# EAGLE library part CD4016BE (library custom)
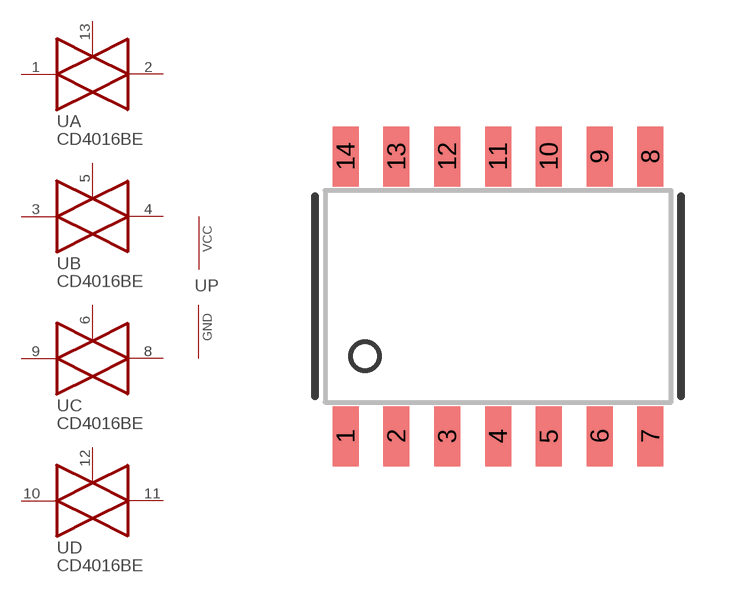
[diagram p27: symbol with the pads of 14-SOICW; footprint 14-SOICW]

Designator prefix -; gates A=T_GATE B=T_GATE C=T_GATE D=T_GATE P=PWRN

## CD4016BE  [14-SOICW]
1  A:1  in
2  A:2  out
3  B:1  in
4  B:2  out
5  B:3  in
6  C:3  in
7  P:GND  pwr
8  C:2  out
9  C:1  in
10  D:1  in
11  D:2  out
12  D:3  in
13  A:3  in
14  P:VCC  pwr

## Footprint 14-SOICW (pad centres in mm)
smd 0.65 x 1.5: 1 -4.445,-3.5; 2 -3.175,-3.5; 3 -1.905,-3.5; 4 -0.635,-3.5; 5 0.635,-3.5; 6 1.905,-3.5; 7 3.175,-3.5; 8 3.175,3.5; 9 1.905,3.5; 10 0.635,3.5; 11 -0.635,3.5; 12 -1.905,3.5; 13 -3.175,3.5; 14 -4.445,3.5